# Altium schematic symbol library Diode 1N4007.Schlib: 1 symbol
Pins are listed as number, name and electrical type; pins without a type are passive.

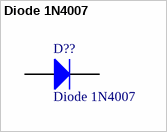
[diagram p0: symbol Diode 1N4007]

## Diode 1N4007
designator D??
1 Amp General Purpose Rectifier
pins: 1 A, 2 K